# Altium footprint library диоды.PcbLib: 45 footprints (part 2 of 3)
Each footprint in its own frame and in the unit in brackets; x right, y up, seen from the top. Pads: shape width x height; smd on the part's side, far side on the other; paste and mask are expansions set on the pad; w line width, h text height; cw(c..) or ccw(c..) is an arc to the next point about the centre after c.
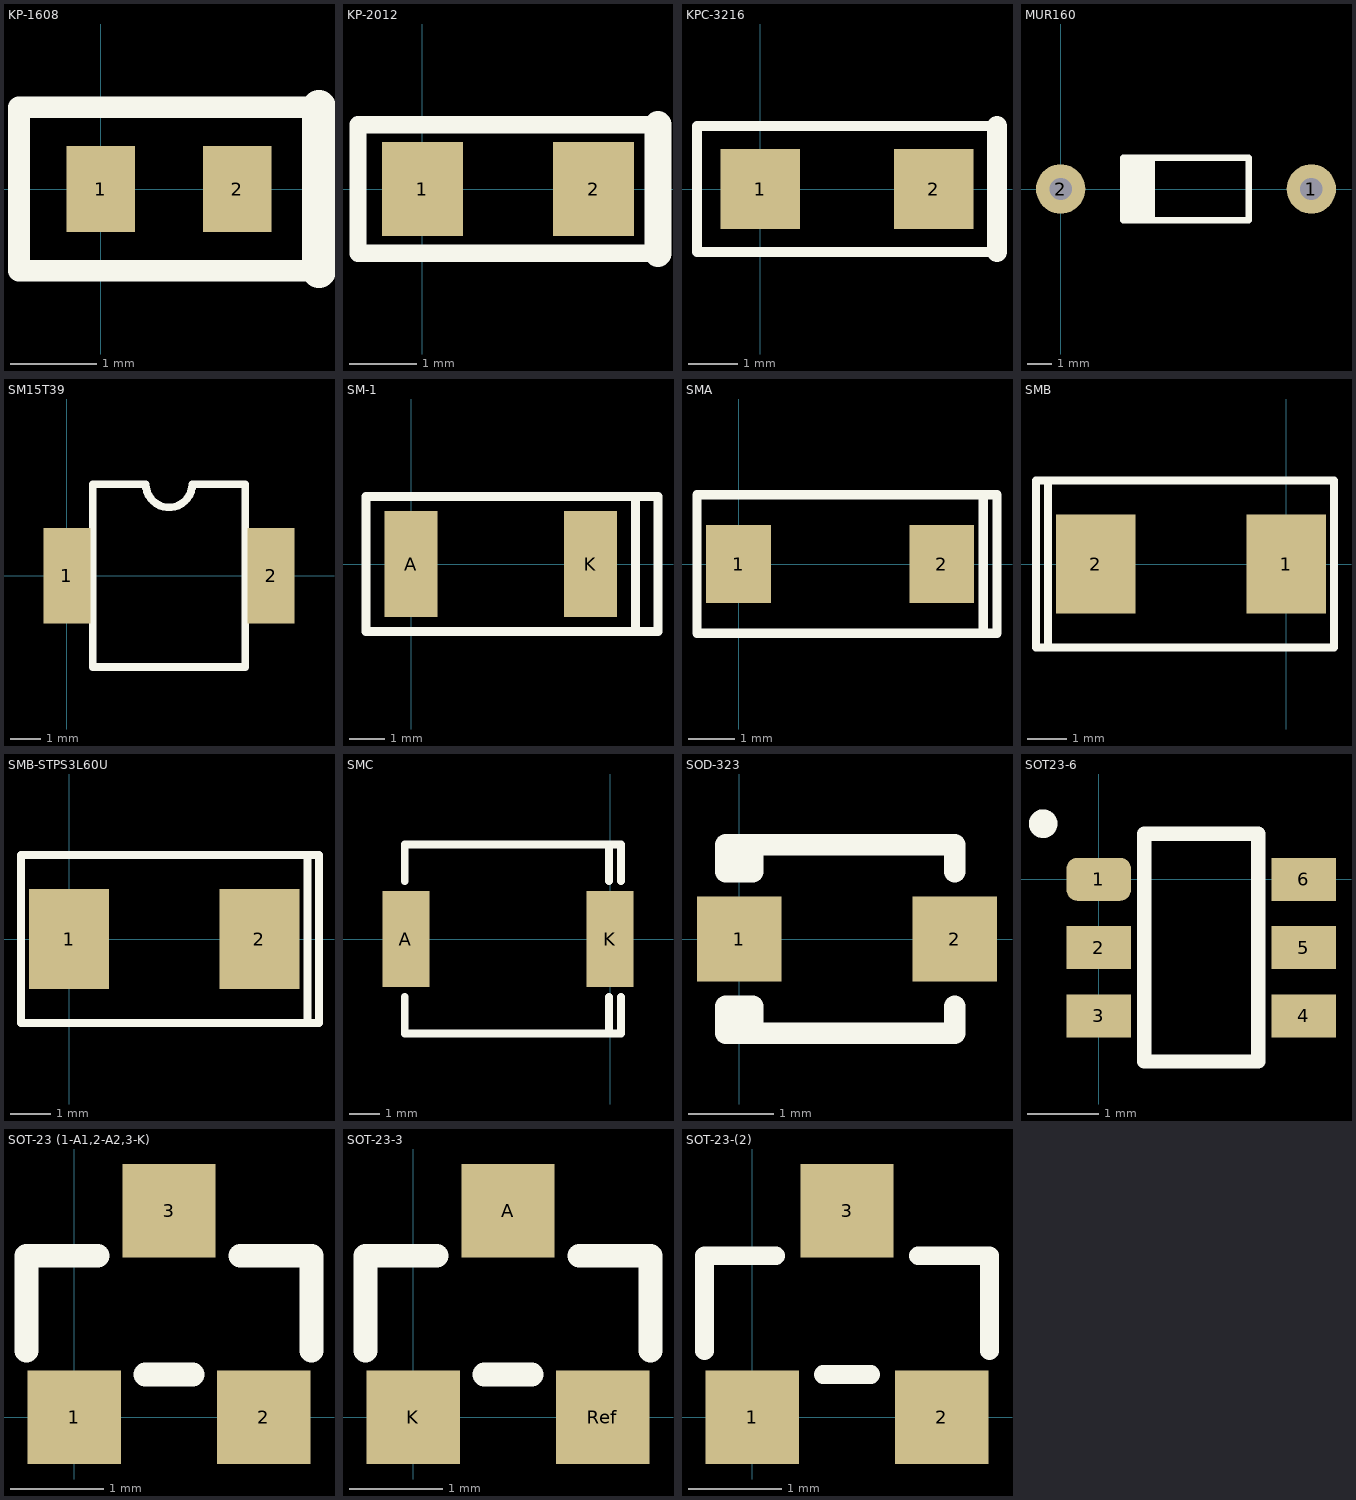
[diagram p1: the footprints below, top view; thin cyan lines are the x and y axes]

## KP-1608 [mm]
pads (2):
  rect 0.8x1 smd: 1(0,0) 2(1.587,0)
Top Overlay:
  lines w0.254: 2.54,-0.953 -0.953,-0.953 -0.953,0.953 2.54,0.953
  lines w0.4: 2.54,-0.953 2.54,0.953

## KP-2012 [mm]
pads (2):
  rect 1.2x1.4 smd: 1(0,0) 2(2.54,0)
Top Overlay:
  lines w0.254: 3.492,-0.953 -0.953,-0.953 -0.953,0.953 3.492,0.953
  lines w0.4: 3.492,-0.953 3.492,0.953

## KPC-3216 [mm]
pads (2):
  rect 1.6x1.6 smd: 1(0,0) 2(3.492,0)
Top Overlay:
  lines w0.2: 4.763,-1.27 -1.27,-1.27 -1.27,1.27 4.763,1.27
  lines w0.4: 4.763,-1.27 4.763,1.27

## MUR160 [mm]
pads (2):
  round 2 hole 0.9: 1(10.16,0) 2(0,0)
Top Overlay:
  region: 2.54,-1.27 3.81,-1.27 3.81,1.27 2.54,1.27
  lines w0.254: 2.54,-1.27 7.62,-1.27 7.62,1.27 2.54,1.27 2.54,-1.27

## PCBComponent_1 [mm]

## SM15T39 [mm]
pads (2):
  rect 1.54x3.14 smd: 1(0,0) 2(6.7,0)
Top Overlay:
  lines w0.254: 0.85,-3 0.85,3 2.588,3 ccw(c3.35,3) 4.112,3 5.85,3 5.85,-3 0.85,-3

## SM-1 [mm]
pads (2):
  rect 1.5x3 smd: A(0,0) K(5.08,0)
Top Overlay:
  lines w0.254: 6.35,-1.905 6.35,1.905 ; -1.27,-1.905 -1.27,1.905 6.985,1.905 6.985,-1.905 -1.27,-1.905

## SMA [mm]
pads (2):
  rect 1.4x1.7 smd mask+0.025: 1(0,0) 2(4.4,0)
Top Overlay:
  lines w0.2: 5.3,-1.5 5.3,1.4 ; -0.9,-1.5 -0.9,1.5 5.6,1.5 5.6,-1.5 -0.9,-1.5
3D body "User Library-DO-214AC(SMA).SLDPRT": height 2.34, standoff 0.06, extent -0.543,-1.397 4.943,1.397

## SMB [mm]
pads (2):
  rect 2x2.5 smd mask+0.025: 1(0,0) 2(-4.8,0)
Top Overlay:
  lines w0.2: -6,-2.1 -6,2.1 ; -6.3,-2.1 1.2,-2.1 1.2,2.1 -6.3,2.1 -6.3,-2.1
3D body "User Library-DO-214AA(SMB).SLDPRT": height 2.6, standoff -0.05, extent -5.194,-1.975 0.394,1.975

## SMB-STPS3L60U [mm]
pads (2):
  rect 2x2.5 smd mask+0.025: 1(0,0) 2(4.763,0)
Top Overlay:
  lines w0.2: 5.957,-2.1 5.957,2.1 ; -1.2,-2.1 6.25,-2.1 6.25,2.1 -1.2,2.1 -1.2,-2.1
3D body "User Library-DO-214AA(SMB).SLDPRT": height 2.6, standoff -0.05, extent -0.394,-1.975 5.194,1.975

## SMC [mm]
pads (2):
  rect 1.54x3.14 smd: A(-6.7,0) K(0,0)
Top Overlay:
  lines w0.254: -6.74,-1.9 -6.74,-3.1 0.36,-3.1 0.36,-1.9 ; -6.74,1.9 -6.74,3.1 0.36,3.1 0.36,1.9 ; -0.04,-3.1 -0.04,-1.9 ; -0.04,1.9 -0.04,3.1

## SOD-323 [mm]
pads (2):
  rect 1x1 smd: 1(0,0) 2(2.54,0)
Top Overlay:
  lines w0.254: 0,-1.111 0,-0.794 ; 0,0.794 0,1.111 ; 0.159,-1.111 0.159,-0.794 -0.159,-0.794 -0.159,-1.111 2.54,-1.111 2.54,-0.794 ; 0.159,1.111 0.159,0.794 -0.159,0.794 -0.159,1.111 2.54,1.111 2.54,0.794

## SOT23-6 [mm]
pads (6):
  rrect50% 0.9x0.6 smd mask+0.025: 1(0,0)
  rect 0.9x0.6 smd mask+0.025: 2(0,-0.953) 3(0,-1.905) 4(2.857,-1.905) 5(2.857,-0.953) 6(2.857,0)
Top Overlay:
  circle w0.2: c-0.775,0.775 r0.1
  lines w0.2: 0.635,-2.54 0.635,0.635 2.222,0.635 2.222,-2.54 0.635,-2.54
3D body "User Library-SOT-23-6-3.SLDPRT": height 0.86, standoff 0, extent 0.02,-2.45 2.83,0.55

## SOT-23 (1-A1,2-A2,3-K) [mm]
pads (3):
  rect 1x1 smd: 1(0,0) 2(2.032,0) 3(1.016,2.21)
Top Overlay:
  lines w0.254: -0.508,0.711 -0.508,1.727 0.254,1.727 ; 0.762,0.457 1.27,0.457 ; 1.778,1.727 2.54,1.727 2.54,0.711
3D body "User Library-SOT23A.SLDPRT": height 1.45, standoff 0, extent -0.534,-0.31 2.566,2.593

## SOT-23-3 [mm]
pads (3):
  rect 1x1 smd: A(1.016,2.21) K(0,0) Ref(2.032,0)
Top Overlay:
  lines w0.254: -0.508,0.711 -0.508,1.727 0.254,1.727 ; 0.762,0.457 1.27,0.457 ; 1.778,1.727 2.54,1.727 2.54,0.711
3D body "User Library-SOT23A.SLDPRT": height 1.45, standoff 0, extent -0.534,-0.31 2.566,2.593

## SOT-23-(2) [mm]
pads (3):
  rect 1x1 smd mask+0.025: 1(0,0) 2(2.032,0) 3(1.016,2.21)
Top Overlay:
  lines w0.2: -0.508,0.711 -0.508,1.727 0.254,1.727 ; 0.762,0.457 1.27,0.457 ; 1.778,1.727 2.54,1.727 2.54,0.711
3D body "User Library-SOT-23-2.SLDPRT": height 1.08, standoff 0, extent -0.475,-0.22 2.525,2.42